# Altium schematic symbol library PCA9536.SchLib: 1 symbol
Pins are listed as number, name and electrical type; pins without a type are passive.

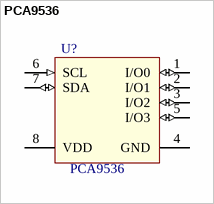
[diagram p0: symbol PCA9536]

## PCA9536
designator U?
Value: PCA9536
pins: 1 I/O0 (io), 2 I/O1 (io), 3 I/O2 (io), 4 GND (power), 5 I/O3 (io), 6 SCL (in), 7 SDA (io), 8 VDD (power)